# EAGLE library part LM318N (library OP)
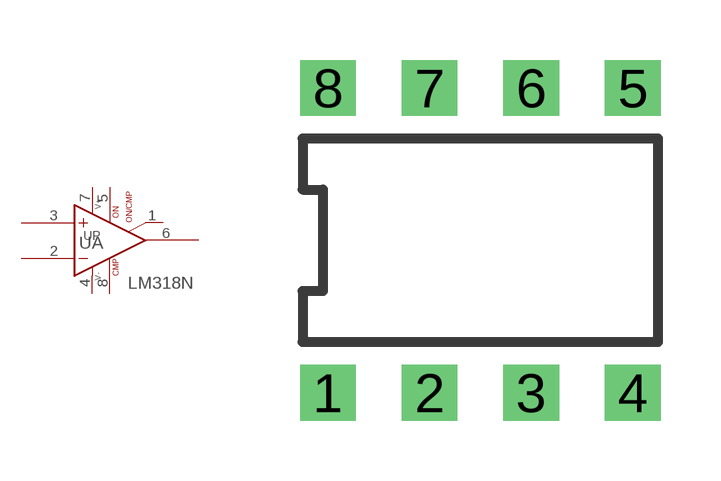
[diagram p4: symbol with the pads of DIL8; footprint DIL8]

Designator prefix U; gates A=2NUL2CMP P=PWR+-04

## LM318N  [DIL8]
1  A:ON/CMP  pas
2  A:-IN  in
3  A:+IN  in
4  P:V-  pwr
5  A:ON  pas
6  A:OUT  out
7  P:V+  pwr
8  A:CMP  pas

## Footprint DIL8 (pad centres in mm)
drill 0.8 pad 1.397 square: 1 0,0; 2 2.54,0; 3 5.08,0; 4 7.62,0; 5 7.62,7.62; 6 5.08,7.62; 7 2.54,7.62; 8 0,7.62